# Altium footprint library WQP_WQP729JH-B.PcbLib: 1 footprints
Each footprint in its own frame and in the unit in brackets; x right, y up, seen from the top. Pads: shape width x height; smd on the part's side, far side on the other; paste and mask are expansions set on the pad; w line width, h text height; cw(c..) or ccw(c..) is an arc to the next point about the centre after c.
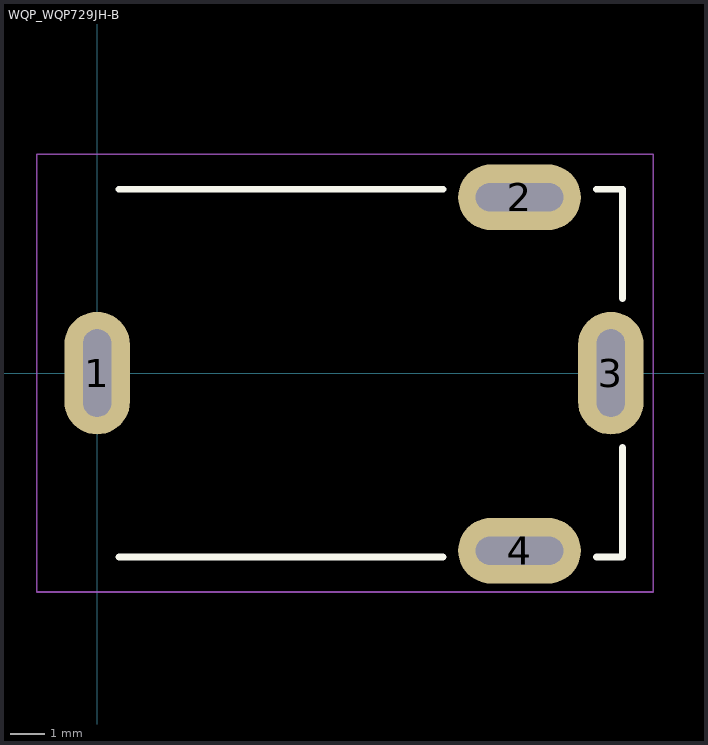
[diagram p0: the footprint, top view; thin cyan lines are the x and y axes]

## WQP_WQP729JH-B [mil]
pads (4):
  oval 75x140 hole 32 slot 100 at 90 deg: 1(0,0) 3(586.61,0)
  oval 140x75 hole 32 slot 100 at 0 deg: 2(482.28,200.79) 4(482.28,-202.76)
Top Overlay:
  lines w7.87: 25,-210 395,-210 ; 25,210 395,210 ; 570,-210 600,-210 600,-85 ; 570,210 600,210 600,85
Mechanical 15:
  lines w1.97: -20,0 20,0 ; 0,-20 0,20 ; -68.9,-250 635,-250 635,250 -68.9,250 -68.9,-250